# Altium schematic symbol library TPS2113ADRBR.SchLib: 1 symbol
Pins are listed as number, name and electrical type; pins without a type are passive.

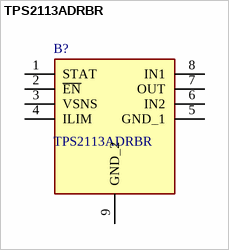
[diagram p0: symbol TPS2113ADRBR]

## TPS2113ADRBR
designator B?
Power Switch ICs - Power Distribution Autoswitching Pwr Mux; Manufacturer_Name: Texas Instruments; Geometry.Height: 1mm; Mouser Part Number: 595-TPS2113ADRBR; Mouser Price/Stock: https://www.mouser.co.uk/ProductDetail/Texas-Instruments/TPS2113ADRBR?qs=g%2FrhRe7LVpRsXhRevikZ7Q%3D%3D; Manufacturer_Part_Number: TPS2113ADRBR; Datasheet Link: https://www.ti.com/lit/gpn/TPS2113A
footprint SON65P300X300X100-9N-D
pins: 1 STAT, 2 ~{EN}, 3 VSNS, 4 ILIM, 5 GND_1, 6 IN2, 7 OUT, 8 IN1, 9 GND_2